# EAGLE library part SD-105027-101 (library Kas-Connectors)
1.10mm, 0.76mm, 0.70mm Pitch microSD Card Header with Detect Switch (Pin 8), Height 1.70mm, Lead-Free, 0.102µm Gold (Au) Plating
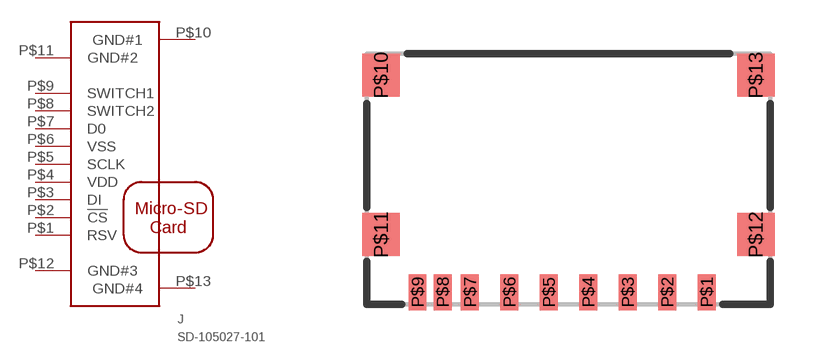
[diagram p0: symbol with the pads of SD-105027-1001; footprint SD-105027-1001]

Designator prefix J

## SD-105027-101  [SD-105027-1001]
P$1  RSV
P$2  !CS
P$3  DI
P$4  VDD
P$5  SCLK
P$6  VSS
P$7  D0
P$8  SWITCH2
P$9  SWITCH1
P$10  GND#1
P$11  GND#2
P$12  GND#3
P$13  GND#4

## Footprint SD-105027-1001 (pad centres in mm)
1.10mm, 0.76mm, 0.70mm Pitch microSD Card Header with Detect Switch (Pin 8), Height 1.70mm, Lead-Free, 0.102µm Gold (Au) Plating
smd 0.5 x 1: P$1 3.85,-6.66; P$2 2.75,-6.66; P$3 1.65,-6.66; P$4 0.55,-6.66; P$5 -0.55,-6.66; P$6 -1.65,-6.66; P$7 -2.75,-6.66; P$8 -3.51,-6.66; P$9 -4.21,-6.66
smd 1.05 x 1.2: P$10 -5.225,-0.6; P$11 -5.225,-5.05; P$12 5.225,-5.05; P$13 5.225,-0.6